# Altium schematic symbol library Connectors.SchLib: 31 symbols
Pins are listed as number, name and electrical type; pins without a type are passive.

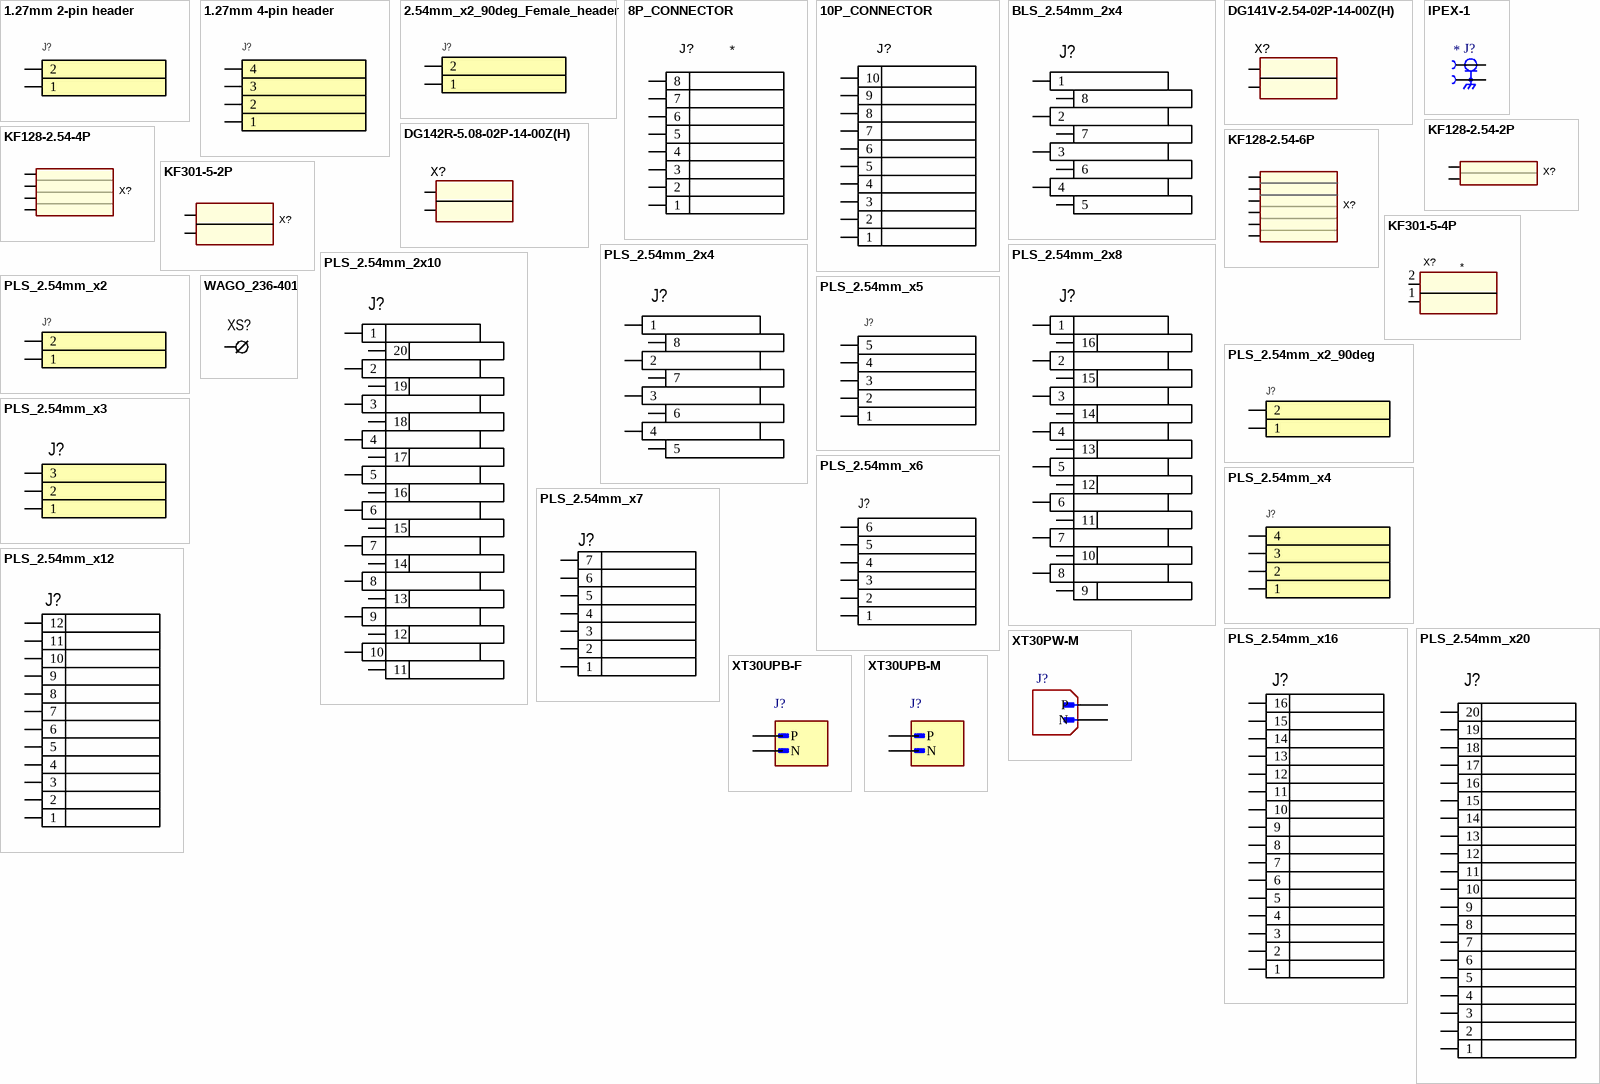
[diagram p0: symbols 1.27mm 2-pin header to XT30UPB-M]

## 1.27mm 2-pin header
designator J?  (value not drawn)
footprint 1.27mm 2-pin header
pins: 1 "internally not connected", 2 "internally not connected"

## 1.27mm 4-pin header
designator J?  (value not drawn)
footprint 1.27mm 4-pin header
pins: 1 "internally not connected", 2 "internally not connected", 3 "internally not connected", 4 "internally not connected"

## 2.54mm_x2_90deg_Female_header
designator J?  (value not drawn)
footprint 2.54mm_x2_90deg_Female_header_footprint
pins: 1 "internally not connected", 2 "internally not connected"

## 8P_CONNECTOR
designator J?
Type: *
footprint BC055-08A-K1-0320-0930-0300-L-B (3мм основание)
footprint BC055-08A-K1-0170-0950-0520-LB (5.2 мм основание / 9.5 мм длина / 9.5 - 1.7 мм посадка)
footprint BC055-08A-K1-0320-0930-0520-L-B (LAND FOOTPRINT) (Ответная часть коннектора. / Вобще то расчитана на вилку, но этот футпринт для прямой пайки в плату / 0.3 мм сторона квадратного штыря)
footprint BC055-08A-K1-0320-0930-0520-L-B (5.2 мм основание)
pins: 1, 2, 3, 4, 5, 6, 7, 8

## 10P_CONNECTOR
designator J?  (value not drawn)
Type: *
footprint BC055-10A-A1-0180-0600-0520-LB (5.2 мм основание / 6 мм длина / 1.8 мм посадка)
pins: 1, 2, 3, 4, 5, 6, 7, 8, 9, 10

## BLS_2.54mm_2x4
designator J?  (value not drawn)  (mechanical)
Virtual (for cable) connector
footprint PLS-2.54mm-2x4
pins: 1, 2, 3, 4, 5, 6, 7, 8

## DG141V-2.54-02P-14-00Z(H)
designator X?  (value not drawn)
Виробник: Degson / Короткий опис: крок: 2,54mm, кількість контактів: 02P, напруга/струм: 150V/2A, на провід: 20-24AWG 1,0mm.кв / Крок, мм: 2,54 mm / К-сть контактів: 2 / Тип роз’єму: Клемник безгвинтовий з важелем на PCB / Номінальний струм: 2 A
footprint CON_DG141V-2.54-02P-14 (Footprint for the / DG142R-5.08-02P)
pins: 1, 2

## DG142R-5.08-02P-14-00Z(H)
designator X?  (value not drawn)
Виробник: Degson / Короткий опис: крок: 5,08мм, к-сть контактів: 02P, напруга/струм: 300V/10A, під провід: 22-16AWG 1,5мм.кв / Крок, мм: 5,08 mm / К-сть контактів: 2 / Тип роз’єму: Клемник безгвинтовий з важелем на PCB / Номінальний струм: 10 A
footprint CON_DG142R-5.08-02P (Footprint for the / DG142R-5.08-02P)
pins: 1, 2

## IPEX-1
designator J?
1 POS Vertical SMD Small form factor with big performance through 6 GHz connector,MHF, RF, micro-coaxial MHF I Receptacle; MF: I-PEX; MP: 20279-001E-03; SnapEDA_Link: https://www.snapeda.com/parts/20279-001E-03/I-PEX/view-part/?ref=snap; Package: IPEX-1; Value: *; Check_prices: https://www.snapeda.com/parts/20279-001E-03/I-PEX/view-part/?ref=eda
footprint IPEX-1_connector (IPEX_20279-001E-03 / External antenna conector)
pins: 1 SIGNAL, 2 GROUND, 3 GROUND

## KF128-2.54-2P
designator X?  (value not drawn)
2-pin Screw Terminal step=2.54mm
footprint KF128-2.54-2P
pins: 1, 2

## KF128-2.54-4P
designator X?  (value not drawn)
4-pin Screw Terminal step=2.54mm
footprint KF128-2.54-4P
pins: 1, 2, 3, 4

## KF128-2.54-6P
designator X?  (value not drawn)
6-pin Screw Terminal step=2.54mm
footprint KF128-2.54-6P
pins: 1, 2, 3, 4, 5, 6

## KF301-5-2P
designator X?  (value not drawn)
2-pin Screw Terminal step=5mm
footprint KF301-2P
pins: 1, 2

## KF301-5-4P
designator X?
4-pin Screw Terminal step=5mm
footprint KF301-2P
pins: 1, 2

## PLS_2.54mm_2x4
designator J?  (value not drawn)
footprint PLS-2.54mm-2x4
pins: 1, 2, 3, 4, 5, 6, 7, 8

## PLS_2.54mm_2x8
designator J?  (value not drawn)
footprint PLS-2.54mm-2x8
pins: 1, 2, 3, 4, 5, 6, 7, 8, 9, 10, 11, 12, 13, 14, 15, 16

## PLS_2.54mm_2x10
designator J?  (value not drawn)
footprint PLS-2.54mm-2x10
pins: 1, 2, 3, 4, 5, 6, 7, 8, 9, 10, 11, 12, 13, 14, 15, 16, 17, 18, 19, 20

## PLS_2.54mm_x2
designator J?  (value not drawn)
footprint PLS-2.54mm-2
pins: 1 "internally not connected", 2 "internally not connected"

## PLS_2.54mm_x2_90deg
designator J?  (value not drawn)
footprint PLS-2.54mm-2-90deg
pins: 1 "internally not connected", 2 "internally not connected"

## PLS_2.54mm_x3
designator J?  (value not drawn)
footprint PLS-2.54mm-3
pins: 1 "internally not connected", 2 "internally not connected", 3 "internally not connected"

## PLS_2.54mm_x4
designator J?  (value not drawn)
footprint PLS-2.54mm-4
pins: 1 "internally not connected", 2 "internally not connected", 3 "internally not connected", 4 "internally not connected"

## PLS_2.54mm_x5
designator J?  (value not drawn)
footprint PLS-2.54mm-5
pins: 1 "internally not connected", 2 "internally not connected", 3 "internally not connected", 4 "internally not connected", 5 "internally not connected"

## PLS_2.54mm_x6
designator J?  (value not drawn)
footprint PLS-2.54mm-6
pins: 1 "internally not connected", 2 "internally not connected", 3 "internally not connected", 4 "internally not connected", 5 "internally not connected", 6 "internally not connected"

## PLS_2.54mm_x7
designator J?  (value not drawn)
footprint PLS-2.54mm-7
pins: 1 "internally not connected", 2 "internally not connected", 3 "internally not connected", 4 "internally not connected", 5 "internally not connected", 6 "internally not connected", 7 "internally not connected"

## PLS_2.54mm_x12
designator J?  (value not drawn)
footprint PLS-2.54mm-12
pins: 1, 2, 3, 4, 5, 6, 7, 8, 9, 10, 11, 12

## PLS_2.54mm_x16
designator J?  (value not drawn)
footprint PLS-2.54mm-16
pins: 1, 2, 3, 4, 5, 6, 7, 8, 9, 10, 11, 12, 13, 14, 15, 16

## PLS_2.54mm_x20
designator J?  (value not drawn)
footprint PLS-2.54mm-20
pins: 1, 2, 3, 4, 5, 6, 7, 8, 9, 10, 11, 12, 13, 14, 15, 16, 17, 18, 19, 20

## WAGO_236-401
designator XS?  (value not drawn)
footprint WAGO_236-401
footprint WAGO_236-401-bottom-only
pins: 1

## XT30PW-M
designator J?, comment XT30  (value not drawn)
Socket; DC supply; XT30; male; PIN: 2; on PCBs; THT; Colour: yellow; MF: AMASS; MP: XT30PW-M; SnapEDA_Link: https://www.snapeda.com/parts/XT30PW-M/AMASS/view-part/?ref=snap; Package: XT30-90deg; Value: *; Check_prices: https://www.snapeda.com/parts/XT30PW-M/AMASS/view-part/?ref=eda
footprint AMASS_XT30PW-M
pins: N (power), P (power)

## XT30UPB-F
designator J?  (value not drawn)
Socket; DC supply; XT30; female; PIN: 2; on PCBs; THT; yellow; 15A; 500V; MF: amass; MP: XT30UPB-M; SnapEDA_Link: https://www.snapeda.com/parts/XT30UPB-M/AMASS/view-part/?ref=snap; Package: XT30-Female; Value: *; Check_prices: https://www.snapeda.com/parts/XT30UPB-M/AMASS/view-part/?ref=eda
footprint XT30UPB-F_90deg_rotated (Rotated 90deg; / Socket; DC supply; XT30; female; PIN: 2; on PCBs; THT; Colour: yellow)
footprint XT30UPB-F (Female)
pins: N, P

## XT30UPB-M
designator J?  (value not drawn)
Socket; DC supply; XT30; male; PIN: 2; on PCBs; THT; yellow; 15A; 500V; MF: amass; SnapEDA_Link: https://www.snapeda.com/parts/XT30UPB-M/AMASS/view-part/?ref=snap; Package: XT30-Male; Value: *; MP: XT30UPB-M; Check_prices: https://www.snapeda.com/parts/XT30UPB-M/AMASS/view-part/?ref=eda
footprint AMASS_XT30UPB-M
pins: N, P